# Altium footprint library PyBoard_PCB.PcbLib: 17 footprints (part 1 of 2)
Each footprint in its own frame and in the unit in brackets; x right, y up, seen from the top. Pads: shape width x height; smd on the part's side, far side on the other; paste and mask are expansions set on the pad; w line width, h text height; cw(c..) or ccw(c..) is an arc to the next point about the centre after c.
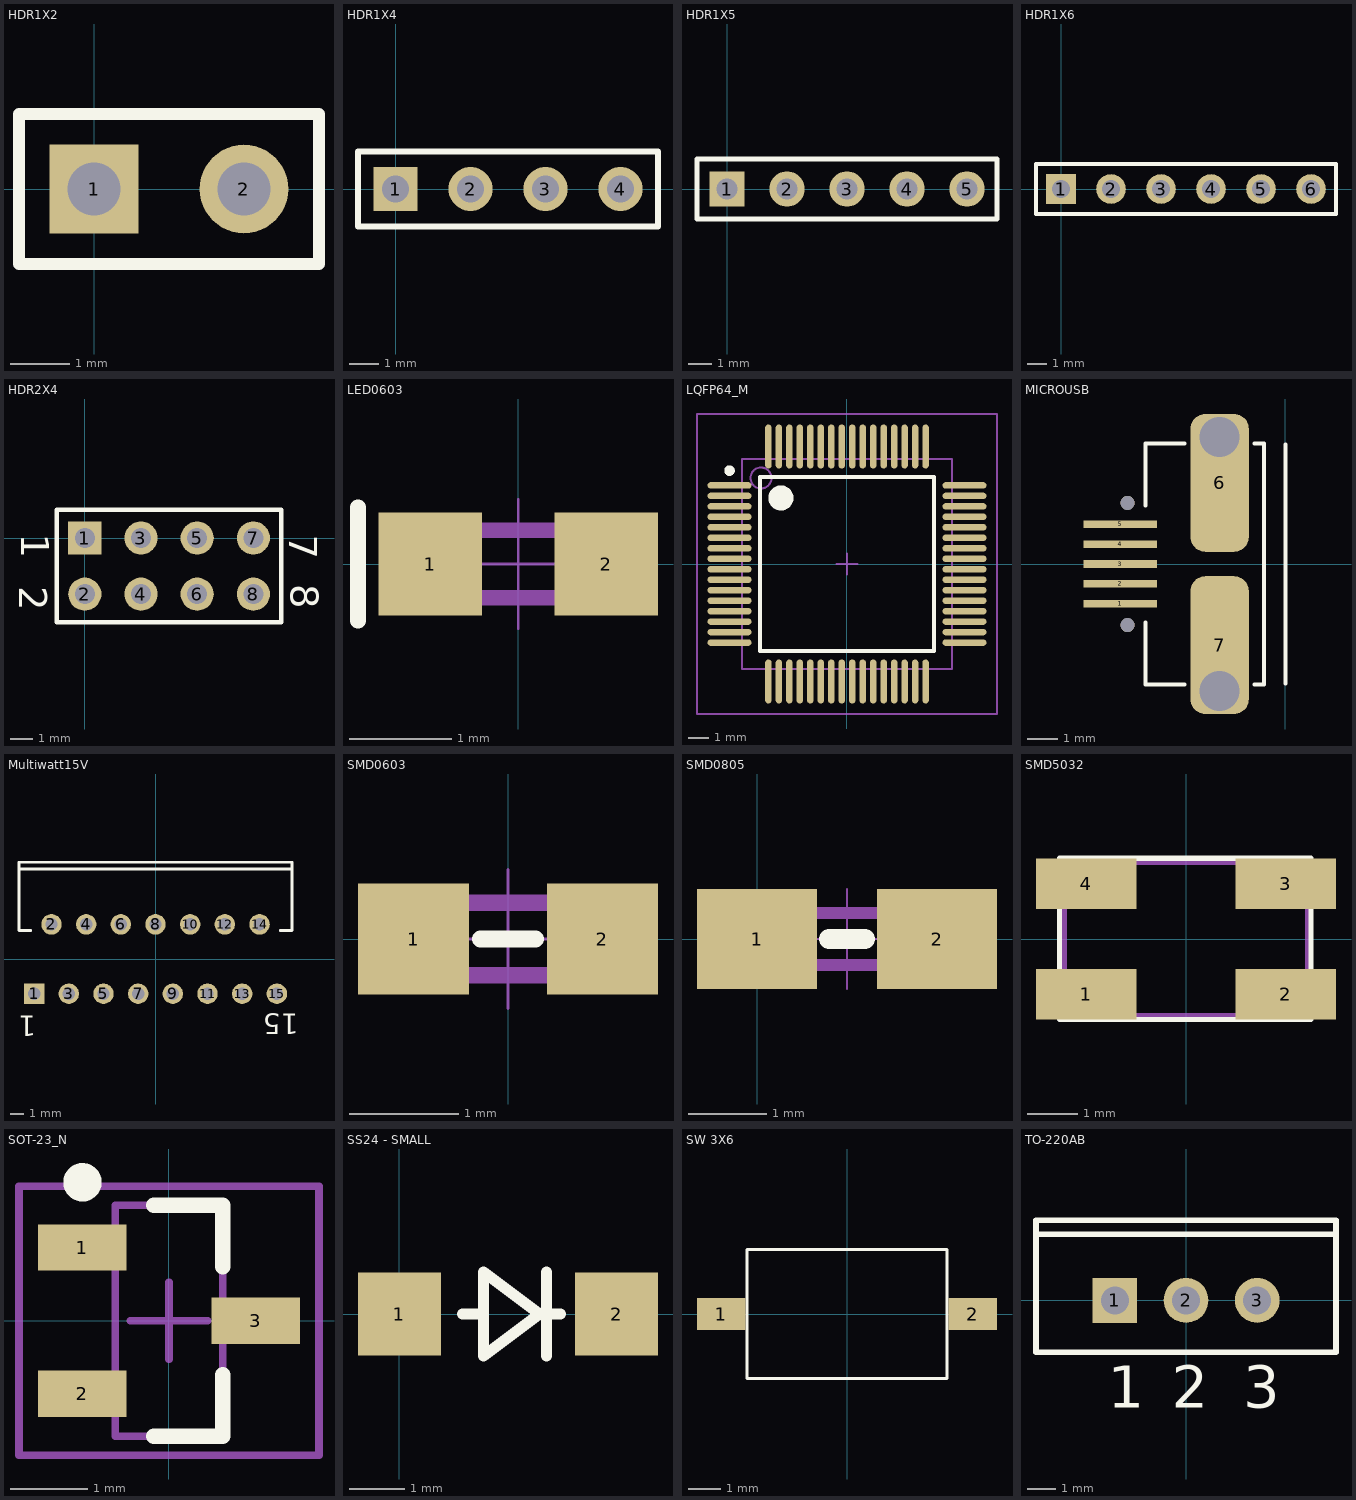
[diagram p0: the footprints below, top view; thin cyan lines are the x and y axes]

## HDR1X2 [mm]
pads (2):
  rect 1.5x1.5 hole 0.9: 1(0,0)
  round 1.5 hole 0.9: 2(2.54,0)
Top Overlay:
  lines w0.2: -1.27,-1.27 3.81,-1.27 3.81,1.27 -1.27,1.27 -1.27,-1.27

## HDR1X4 [mm]
pads (4):
  rect 1.5x1.5 hole 0.9: 1(0,0)
  round 1.5 hole 0.9: 2(2.54,0) 3(5.08,0) 4(7.62,0)
Top Overlay:
  lines w0.2: -1.27,-1.27 8.89,-1.27 8.89,1.27 -1.27,1.27 -1.27,-1.27

## HDR1X5 [mm]
pads (5):
  rect 1.5x1.5 hole 0.9: 1(0,0)
  round 1.5 hole 0.9: 2(2.54,0) 3(5.08,0) 4(7.62,0) 5(10.16,0)
Top Overlay:
  lines w0.2: -1.27,-1.27 11.43,-1.27 11.43,1.27 -1.27,1.27 -1.27,-1.27

## HDR1X6 [mm]
pads (6):
  rect 1.5x1.5 hole 0.9: 1(0,0)
  round 1.5 hole 0.9: 2(2.54,0) 3(5.08,0) 4(7.62,0) 5(10.16,0) 6(12.7,0)
Top Overlay:
  lines w0.2: -1.27,-1.27 13.97,-1.27 13.97,1.27 -1.27,1.27 -1.27,-1.27

## HDR2X4 [mm]
pads (8):
  rect 1.5x1.5 hole 0.9: 1(0,0)
  round 1.5 hole 0.9: 2(0,-2.54) 3(2.54,0) 4(2.54,-2.54) 5(5.08,0) 6(5.08,-2.54) 7(7.62,0) 8(7.62,-2.54)
Top Overlay:
  lines w0.2: -1.27,-3.81 8.89,-3.81 8.89,1.27 -1.27,1.27 -1.27,-3.81
  text "2" at -2.976,-2.173 h1.27
  text "1" at -2.874,0.19 h1.27
  text "7" at 9.242,0.139 h1.27
  text "8" at 9.318,-2.096 h1.27

## LED0603 [mil]
pads (2):
  rect 40x40 smd: 1(-34,0) 2(34,0)
Top Overlay:
  lines w6: -62,-22 -62,22
Mechanical 1:
  lines w6: -30,-13 -30,13 30,13 30,-13 -30,-13 ; -25,-11 -25,11 -21,11 -21,-11 -25,-11 ; 21,-11 21,11 25,11 25,-11 21,-11
Mechanical 16:
  lines w1: -25,0 25,0 ; 0,-25 0,25

## LQFP64_M [mm]
pads (64):
  oval 2.1x0.3 smd: 1(-5.6,3.75) 2(-5.6,3.25) 3(-5.6,2.75) 4(-5.6,2.25) 5(-5.6,1.75) 6(-5.6,1.25) 7(-5.6,0.75) 8(-5.6,0.25) 9(-5.6,-0.25) 10(-5.6,-0.75) 11(-5.6,-1.25) 12(-5.6,-1.75) 13(-5.6,-2.25) 14(-5.6,-2.75) 15(-5.6,-3.25) 16(-5.6,-3.75) 33(5.6,-3.75) 34(5.6,-3.25) 35(5.6,-2.75) 36(5.6,-2.25) 37(5.6,-1.75) 38(5.6,-1.25) 39(5.6,-0.75) 40(5.6,-0.25) 41(5.6,0.25) 42(5.6,0.75) 43(5.6,1.25) 44(5.6,1.75) 45(5.6,2.25) 46(5.6,2.75) 47(5.6,3.25) 48(5.6,3.75)
  oval 0.3x2.1 smd: 17(-3.75,-5.6) 18(-3.25,-5.6) 19(-2.75,-5.6) 20(-2.25,-5.6) 21(-1.75,-5.6) 22(-1.25,-5.6) 23(-0.75,-5.6) 24(-0.25,-5.6) 25(0.25,-5.6) 26(0.75,-5.6) 27(1.25,-5.6) 28(1.75,-5.6) 29(2.25,-5.6) 30(2.75,-5.6) 31(3.25,-5.6) 32(3.75,-5.6) 49(3.75,5.6) 50(3.25,5.6) 51(2.75,5.6) 52(2.25,5.6) 53(1.75,5.6) 54(1.25,5.6) 55(0.75,5.6) 56(0.25,5.6) 57(-0.25,5.6) 58(-0.75,5.6) 59(-1.25,5.6) 60(-1.75,5.6) 61(-2.25,5.6) 62(-2.75,5.6) 63(-3.25,5.6) 64(-3.75,5.6)
Top Overlay:
  circle w0.25: c-5.6,4.45 r0.125
  circle w0.6: c-3.15,3.15 r0.3
  lines w0.2: -4.15,-4.15 -4.15,4.15 4.15,4.15 4.15,-4.15 -4.15,-4.15
Mechanical 13:
  circle w0.1: c-4.1,4.1 r0.5
  lines w0.1: -5,-5 -5,5 5,5 5,-5 -5,-5
Mechanical 15:
  lines w0.1: -0.5,0 0.5,0 ; 0,-0.5 0,0.5 ; -7.15,-7.15 -7.15,7.15 7.15,7.15 7.15,-7.15 -7.15,-7.15
3D body: height 1.6, standoff 0, extent -5,-5 5,5

## MICROUSB [mm]
pads (9):
  rect 2.4x0.25 smd: 1(-5.4,-1.3) 2(-5.4,-0.65) 3(-5.4,0) 4(-5.4,0.65) 5(-5.4,1.3)
  rrect50% 1.9x4.5 smd: 6(-2.15,2.65) 7(-2.15,-2.65)
  round 0.457 hole 0.457 unplated: ""(-5.159,-2) ""(-5.159,2)
via -2.159,-4.15 diameter 1.5 hole 1.3
via -2.159,4.15 diameter 1.5 hole 1.3
Top Overlay:
  lines w0.127: -4.572,-1.905 -4.572,-3.937 -3.302,-3.937 ; -4.572,1.905 -4.572,3.937 -3.302,3.937 ; -1.016,-3.937 -0.7,-3.937 ; -1.016,3.937 -0.7,3.937 ; -0.7,-3.9 -0.7,3.9 ; 0,-3.9 0,3.9

## Multiwatt15V [mm]
pads (15):
  rect 1.5x1.5 hole 0.9: 1(-8.89,-2.54)
  round 1.5 hole 0.9: 2(-7.62,2.54) 3(-6.35,-2.54) 4(-5.08,2.54) 5(-3.81,-2.54) 6(-2.54,2.54) 7(-1.27,-2.54) 8(0,2.54) 9(1.27,-2.54) 10(2.54,2.54) 11(3.81,-2.54) 12(5.08,2.54) 13(6.35,-2.54) 14(7.62,2.54) 15(8.89,-2.54)
Top Overlay:
  lines w0.2: -10,6.59 10,6.59 ; -9.144,2.09 -10,2.09 -10,7.09 10,7.09 10,2.09 9.144,2.09
  text "15" at 10.477,-4 h1.5
  text "1" at -8.75,-4.153 h1.5

## SMD0603 [mil]
pads (2):
  rect 40x40 smd: 1(-34,0) 2(34,0)
Top Overlay:
  lines w6: -10,0 10,0
Mechanical 1:
  lines w6: -30,-13 30,-13 30,13 -30,13 -30,-13 ; -25,-11 -21,-11 -21,11 -25,11 -25,-11 ; 21,-11 25,-11 25,11 21,11 21,-11
Mechanical 16:
  lines w1: -25,0 25,0 ; 0,-25 0,25

## SMD0805 [mil]
pads (2):
  rect 60x50 smd: 1(0,0) 2(90,0)
Top Overlay:
  lines w10: 36,0 54,0
Mechanical 1:
  lines w6: 15,-13 75,-13 ; 15,13 75,13
Mechanical 16:
  lines w1: 20,0 70,0 ; 45,-25 45,25

## SMD5032 [mm]
pads (4):
  rect 2x1 smd: 1(-1.98,-1.096) 2(1.98,-1.096) 3(1.98,1.096) 4(-1.98,1.096)
Top Overlay:
  lines w0.1: -2.513,-1.596 2.487,-1.596 2.487,1.604 -2.513,1.604 -2.513,-1.596
Mechanical 1:
  lines w0.1: -2.413,-1.524 -2.413,1.524 2.413,1.524 2.413,-1.524 -2.413,-1.524
3D body: height 0.8, standoff 0, extent -2.413,-1.524 2.413,1.524

## SOT-23_N [mm]
pads (3):
  rect 1.15x0.6 smd: 1(-1.125,0.95) 2(-1.125,-0.95) 3(1.125,0)
Top Overlay:
  circle w0.25: c-1.125,1.8 r0.125
  lines w0.2: -0.2,-1.5 0.7,-1.5 0.7,-0.7 ; -0.2,1.5 0.7,1.5 0.7,0.7
Mechanical 13:
  lines w0.1: -0.7,-1.5 0.7,-1.5 0.7,1.5 -0.7,1.5 -0.7,-1.5
Mechanical 15:
  lines w0.1: -0.5,0 0.5,0 ; 0,-0.5 0,0.5 ; -1.95,-1.75 1.95,-1.75 1.95,1.75 -1.95,1.75 -1.95,-1.75
3D body: height 1.1, standoff 0, extent -0.7,-1.5 0.7,1.5

## SS24 - SMALL [mm]
pads (2):
  rect 1.5x1.5 smd: 1(0,0) 2(3.937,0)
Top Overlay:
  lines w0.203: 1.143,0 1.524,0 ; 2.667,-0.762 2.667,0.762 ; 2.921,0 2.54,0 ; 2.54,0 1.524,-0.762 1.524,0.762 2.54,0
3D body: height 3, standoff 0.25, extent -0.635,-0.889 4.572,0.889

## SW 3X6 [mm]
pads (2):
  rect 1.5x1 smd: 1(-3.9,0) 2(3.9,0)
Top Overlay:
  lines w0.1: -3.1,-2 3.1,-2 3.1,2 -3.1,2 -3.1,-2

## TO-220AB [mm]
pads (3):
  rect 1.6x1.6 hole 1: 1(-2.54,0)
  round 1.6 hole 1: 2(0,0) 3(2.54,0)
Top Overlay:
  lines w0.2: -5.35,2.35 5.35,2.35 ; -5.35,-1.85 -5.35,2.85 5.35,2.85 5.35,-1.85 -5.35,-1.85
  text "3" at 2.04,-3.825 h1.5
  text "1" at -2.79,-3.825 h1.5
  text "2" at -0.5,-3.825 h1.5